# Altium integrated library FE310_Module.IntLib: 22 symbols
Pins are listed as number, name and electrical type; pins without a type are passive.

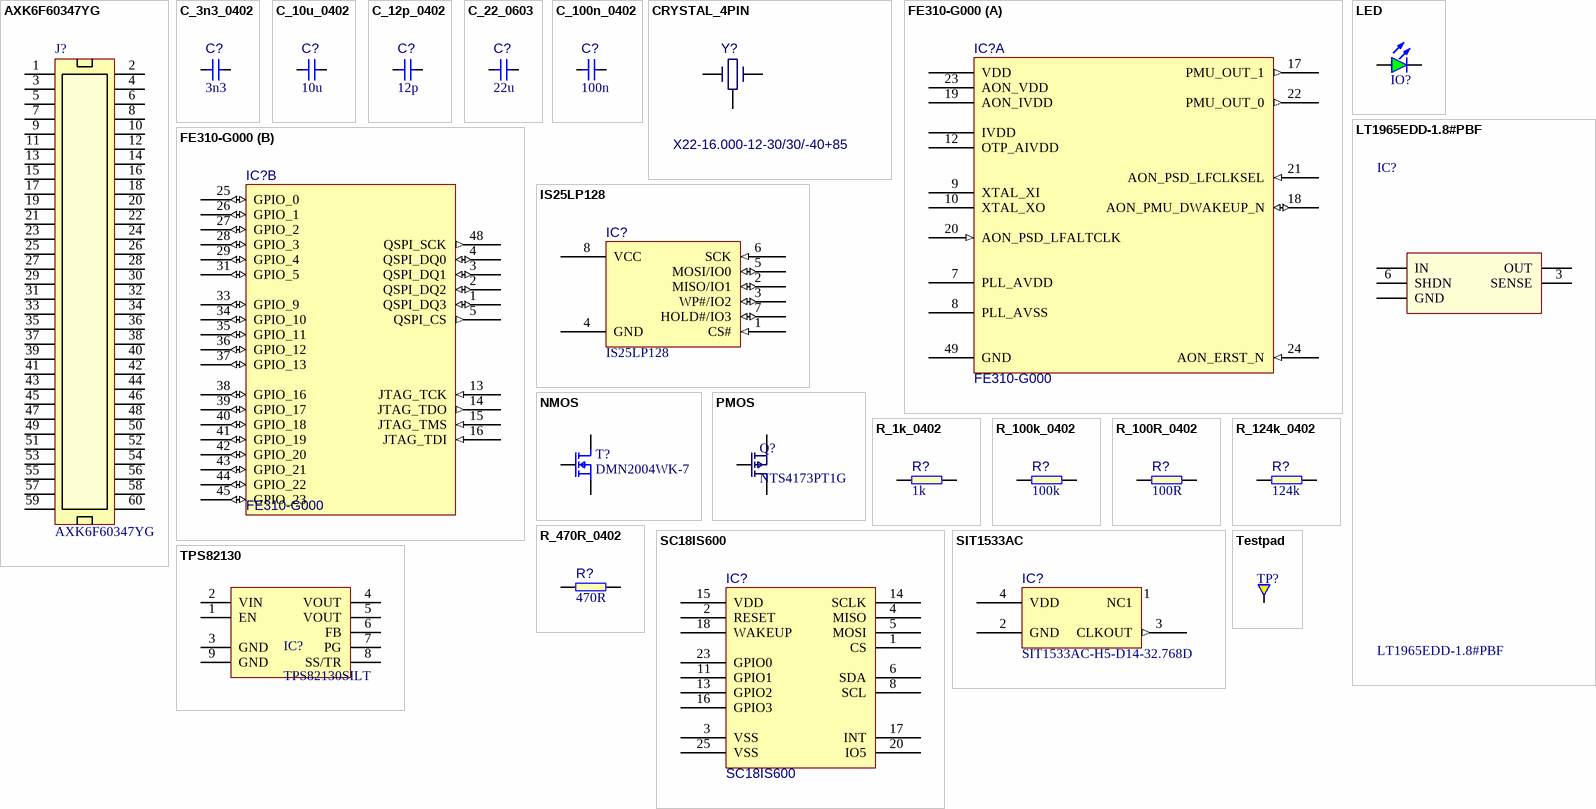
[diagram p0: symbols AXK6F60347YG to TPS82130]

## AXK6F60347YG
designator J?
CONN HEADER BRD/BRD .5MM 60POS; Manufacturer: PANASONIC; Part Number: AXK6F60347YG; Value: AXK6F60347YG; Part Symbol: AXK6F60347YG
footprint AXK6F60347YG
pins: 1, 2, 3, 4, 5, 6, 7, 8, 9, 10, 11, 12, 13, 14, 15, 16, 17, 18, 19, 20, 21, 22, 23, 24, 25, 26, 27, 28, 29, 30, 31, 32, 33, 34, 35, 36, 37, 38, 39, 40, 41, 42, 43, 44, 45, 46, 47, 48, 49, 50, 51, 52, 53, 54, 55, 56, 57, 58, 59, 60

## C_3n3_0402
designator C?, comment 3n3
MLCC SMT Capacitor 3.3nF 0402; Part Number: C_3n3_0402; Manufacturer: MULTICOMP; Part Symbol: MC0402B332K250CT; Value: 3n3
footprint 0402
pins: 1, 2
1 alternate drawing of the same symbol

## C_10u_0402
designator C?, comment 10u
MLCC SMT Capacitor 10uF 0402; Part Number: C_10u_0402; Manufacturer: TDK; Part Symbol: C1005X5R0J106M050BC; Value: 10u
footprint 0402
pins: 1, 2
1 alternate drawing of the same symbol

## C_12p_0402
designator C?, comment 12p
MLCC SMT Capacitor 12pF 0402; Part Number: C_12p_0402; Manufacturer: WALSIN; Part Symbol: 0402N120J500CT; Value: 12p
footprint 0402
pins: 1, 2
1 alternate drawing of the same symbol

## C_22_0603
designator C?, comment 22u
MLCC SMT Capacitor 22uF 0603; Part Number: C_22u_0603; Manufacturer: MURATA; Part Symbol: GRM188R60G226MEA0D; Value: 22u
footprint 0603
pins: 1, 2
1 alternate drawing of the same symbol

## C_100n_0402
designator C?, comment 100n
MLCC SMT Capacitor 100nF 0402; Part Number: C_100n_0402; Manufacturer: MULTICOMP; Part Symbol: MC0402X104M100CT; Value: 100n
footprint 0402
pins: 1, 2
1 alternate drawing of the same symbol

## CRYSTAL_4PIN
designator Y?, comment X22-16.000-12-30/30/-40+85
MERCURY UNITED ELECTRONICS  X22-16.000-12-30/30/-40+85  Crystal, 16 MHz, SMD, 2.5mm x 2mm, 30 ppm, 12 pF, 30 ppm, X22 Series; Part Number: CRYSTAL_16MHz_SMD_2.5x2mm; Manufacturer: MERCURY UNITED ELECTRONICS; Part Symbol: X22-16.000-12-30/30/-40+85; Value: X22-16.000-12-30/30/-40+85
footprint CRYSTAL_X22_2.5x2mm
pins: 1, 3, GND

## FE310-G000
designator IC?
Manufacturer: FREEDOM; Part Number: FE310-G000; Value: FE310-G000; Part Symbol: FE310-G000
footprint FE310-G000
part A pins: 7 PLL_AVDD (power), 8 PLL_AVSS, 9 XTAL_XI, 10 XTAL_XO, 12 OTP_AIVDD (power), 17 PMU_OUT_1 (out), 18 AON_PMU_DWAKEUP_N (io), 19 AON_IVDD (power), 20 AON_PSD_LFALTCLK (in), 21 AON_PSD_LFCLKSEL (in), 22 PMU_OUT_0 (out), 23 AON_VDD (power), 24 AON_ERST_N (in), 49 GND, IVDD (power), VDD (power)
part B pins: 1 QSPI_DQ3 (io), 2 QSPI_DQ2 (io), 3 QSPI_DQ1 (io), 4 QSPI_DQ0 (io), 5 QSPI_CS (out), 13 JTAG_TCK (in), 14 JTAG_TDO (out), 15 JTAG_TMS (in), 16 JTAG_TDI (in), 25 GPIO_0 (io), 26 GPIO_1 (io), 27 GPIO_2 (io), 28 GPIO_3 (io), 29 GPIO_4 (io), 31 GPIO_5 (io), 33 GPIO_9 (io), 34 GPIO_10 (io), 35 GPIO_11 (io), 36 GPIO_12 (io), 37 GPIO_13 (io), 38 GPIO_16 (io), 39 GPIO_17 (io), 40 GPIO_18 (io), 41 GPIO_19 (io), 42 GPIO_20 (io), 43 GPIO_21 (io), 44 GPIO_22 (io), 45 GPIO_23 (io), 48 QSPI_SCK (out)

## IS25LP128
designator IC?
Flash Memory 128Mb QPI/QSPI, WSON, RoHS, ET; Part Number: IS25LP128-JKLE; Manufacturer: ISSI; Value: IS25LP128; Part Symbol: IS25LP128-JKLE
footprint SOIC127P790X216-8N
footprint WSON_6x5mm_8pin (WSON 6x5mm 8 pins)
pins: 1 CS# (in), 2 MISO/IO1 (io), 3 WP#/IO2 (io), 4 GND, 5 MOSI/IO0 (io), 6 SCK (in), 7 HOLD#/IO3 (io), 8 VCC (power)

## LED
designator IO?, comment KPT-1608SGC  (value not drawn)
LED Green 0603 case; Part Number: LED_G; Manufacturer: KINGBRIGHT; Value: KPT-1608SGC; Part Symbol: KPT-1608SGC
footprint LED0603
pins: A, K

## LT1965EDD-1.8#PBF
designator IC?
LINEAR TECHNOLOGY  LT1965EDD-1.8#PBF  Fixed LDO Voltage Regulator, 1.8V to 20V, 310mV Dropout, 1.8Vout, 1.1Aout, DFN-8; Part Number: LT1965EDD-1.8#PBF; Value: LT1965EDD-1.8#PBF; Manufacturer: LINEAR TECHNOLOGY; Part Symbol: LT1965EDD-1.8#PBF
footprint DFN-8_3X3 (QFN, 8-Leads, Body 3,00x3,00mm, Pitch 0,50mm, Thermal Pad 2,38x1,65mm, IPC Medium Density)
pins: 3 SENSE, 6 SHDN, GND, IN, OUT

## NMOS
designator T?, comment DMN2004WK-7
MOSFET N-CH 20V 540MA SC70-3; Manufacturer: DIODES INC.; Value: DMN2004WK-7; Part Number: DMN2004WK-7; Part Symbol: DMN2004WK-7
footprint SC70-3 (SC70, 3-Leads, Pitch 0,65mm, EIAJ SC-88a)
pins: 1 G, 2 S, 3 D

## PMOS
designator Q?, comment NTS4173PT1G
MOSFET P-CH 30V 1.2A SC70-3; Manufacturer: ON Semiconductor; Part Symbol: NTS4173PT1G; Part Number: NTS4173PT1G; Value: NTS4173PT1G
footprint SC70-3 (SC70, 3-Leads, Pitch 0,65mm, EIAJ SC-88a)
pins: 1 G, 2 S, 3 D

## R_1k_0402
designator R?, comment 1k
SMT Resistor 1k 0402; Part Number: R_1k_0402; Manufacturer: MULTICOMP; Part Symbol: MCMR04X1001FTL; Value: 1k
footprint 0402
pins: 1, 2

## R_100k_0402
designator R?, comment 100k
SMT Resistor 100k 0402; Part Number: R_100k_0402; Manufacturer: VISHAY; Part Symbol: CRCW0402100KFKEDHP; Value: 100k
footprint 0402
pins: 1, 2

## R_100R_0402
designator R?, comment 100R
SMT Resistor 100R 0402; Part Number: R_100R_0402; Manufacturer: BOURNS; Part Symbol: CR0402-FX-1000GLF; Value: 100R
footprint 0402
pins: 1, 2

## R_124k_0402
designator R?, comment 124k
SMT Resistor 124k 0402; Part Number: R_124k_0402; Manufacturer: WALSIN; Part Symbol: WR04X1243FTL; Value: 124k
footprint 0402
pins: 1, 2

## R_470R_0402
designator R?, comment 470R
SMT Resistor 470R 0402; Part Number: R_470R_0402; Manufacturer: BOURNS; Part Symbol: CRCW0402470RFKED.; Value: 470R
footprint 0402
pins: 1, 2

## SC18IS600
designator IC?
IC SPI TO I2C BUS 24-HVQFN; Part Number: SC18IS600IBS; Manufacturer: NXP; Value: SC18IS600; Part Symbol: SC18IS600IBS
footprint QFN-24_4X4MM
pins: 1 CS, 2 RESET, 3 VSS, 4 MISO, 5 MOSI, 6 SDA, 8 SCL, 11 GPIO1, 13 GPIO2, 14 SCLK, 15 VDD, 16 GPIO3, 17 INT, 18 WAKEUP, 20 IO5, 23 GPIO0, 25 VSS

## SIT1533AC
designator IC?, comment SIT1533AC-H5-D14-32.768D
32.768kHz LVCMOS MEMS (Silicon) Oscillator Surface Mount 1.2 V ~ 3.63 V 1.3µA; Manufacturer: SiTIME; Part Number: SIT1533AC-H5-D14-32.768D; Value: SIT1533AC-H5-D14-32.768D; Part Symbol: SIT1533AC-H5-D14-32.768D
footprint SIT1533AC
pins: 1 NC1, 2 GND, 3 CLKOUT (out), 4 VDD (power)

## Testpad
designator TP?  (value not drawn)  (no BOM)
Testpad 1.5mm diameter
footprint TP-R-0.7
pins: 1

## TPS82130
designator IC?, comment TPS82130SILT
3-A 17V STEP-DOWN CONVERTER; Manufacturer: Texas Instruments; Part Number: TPS82130SILT; Part Symbol: TPS82130SILT; Value: TPS82130SILT
footprint MicroSIP
pins: 1 EN, 2 VIN, 3 GND, 4 VOUT, 5 VOUT, 6 FB, 7 PG, 8 SS/TR, 9 GND